# Altium schematic symbol library Regulators.SchLib: 376 symbols (part 2 of 4)
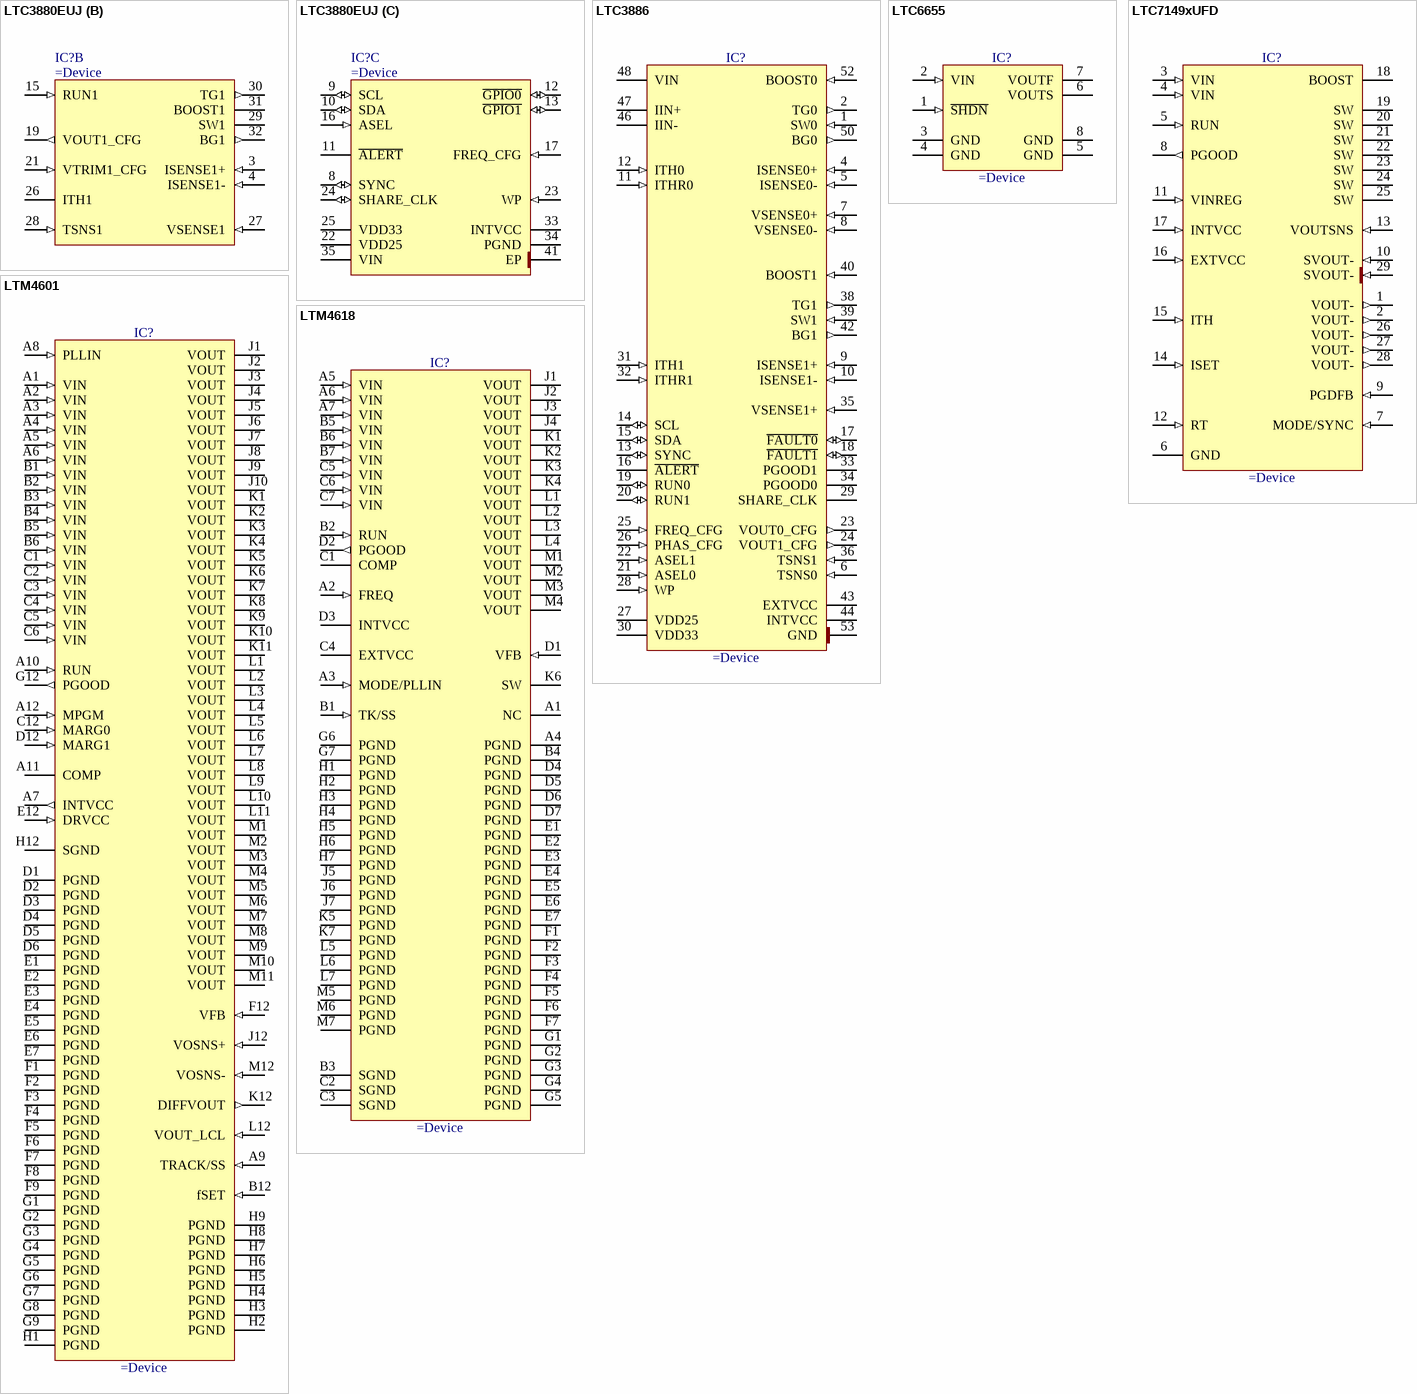
[diagram p13: symbols LTC3880EUJ to LTM4618]

## LTC3880EUJ
designator IC?
Dual Output PolyPhase Step-Down DC/DC Controller with Digital Power System Management, 40-pin QFN (UJ-40), -40 to 105 degC, Pb-Free
part A pins: 1 VSENSE0+ (in) "Channel 0 Positive Voltage Sense Input.", 2 VSENSE0- (in) "Channel 0 Negative Voltage Sense Input.", 5 ITH0 "Current Control Threshold and Error Amplifier Compensation Nodes. Each associated channel¡¯s current comparator tripping threshold increases with its ITH voltage.", 6 ISENSE0+ (in) "Current Sense Comparator Inputs. The (+) inputs to the current comparators are normally connected to DCR sensing networks or current sensing resistors.", 7 ISENSE0- (in) "Current Sense Comparator Inputs. The (-) inputs are connected to the low side of the current sense element.", 14 RUN0 (in) "Enable Run Input. Logic high on these pins enables the controller. Open-drain output holds the pin low until the LTC3880 is out of reset. A pullup resistor to 3.3V is required in the application.", 18 VOUT0_CFG (out) "Output Voltage Select Pin. Connect a +/-1% resistor divider between the chip VDD25 VOUTn_CFG and SGND in order to select output voltage. This voltage can be adjusted with the VTRIMn_CFG pins. If the pin is left open, the IC (See Datasheet)", 20 VTRIM0_CFG (in) "Voltage Trim Select Pin. Connect a +/-1% resistor divider between the chip VDD25 VTRIMn_CFG and SGND in order to adjust the output voltage set point. The VTRIMn_CFG settings in conjunction with the VOUTn_CFG setting adjusts (See Datasheet)", 36 BG0 (out) "Bottom Gate Driver Outputs. These pins drive the gates of the bottom N-Channel MOSFETs between PGND and INTVCC.", 37 BOOST0 "Boosted Floating Driver Supplies. The (+) terminal of the booststrap capacitors connect to these pins. These pins swing from a diode voltage drop below INTVCC up to VIN + INTVCC.", 38 TG0 (out) "Top Gate Driver Outputs. These are the outputs of floating drivers with a voltage swing equal to INTVCC superimposed on the switch node voltages.", 39 SW0 "Switch Node Connections to Inductors. Voltage swings at the pins are from a Schottky diode (external) voltage drop below ground to VIN.", 40 TSNS0 (in) "Channel 0,1 External Diode Temperature Sense. Connect to the anode of a diode connected PNP transistor and star connect the cathode to SGND in order to sense remote temperature. If external temperature sense elements are not (See Datasheet)"
part B pins: 3 ISENSE1+ (in) "Current Sense Comparator Inputs. The (+) inputs to the current comparators are normally connected to DCR sensing networks or current sensing resistors.", 4 ISENSE1- (in) "Current Sense Comparator Inputs. The (-) inputs are connected to the low side of the current sense element.", 15 RUN1 (in) "Enable Run Input. Logic high on these pins enables the controller. Open-drain output holds the pin low until the LTC3880 is out of reset. A pullup resistor to 3.3V is required in the application.", 19 VOUT1_CFG (out) "Output Voltage Select Pin. Connect a +/-1% resistor divider between the chip VDD25 VOUTn_CFG and SGND in order to select output voltage. This voltage can be adjusted with the VTRIMn_CFG pins. If the pin is left open, the IC (See Datasheet)", 21 VTRIM1_CFG (in) "Voltage Trim Select Pin. Connect a +/-1% resistor divider between the chip VDD25 VTRIMn_CFG and SGND in order to adjust the output voltage set point. The VTRIMn_CFG settings in conjunction with the VOUTn_CFG setting adjusts (See Datasheet)", 26 ITH1 "Current Control Threshold and Error Amplifier Compensation Nodes. Each associated channel¡¯s current comparator tripping threshold increases with its ITH voltage.", 27 VSENSE1 (in) "Channel 1 Voltage Sense Input. This input voltage is referenced to the SGND pin.", 28 TSNS1 (in) "Channel 0,1 External Diode Temperature Sense. Connect to the anode of a diode connected PNP transistor and star connect the cathode to SGND in order to sense remote temperature. If external temperature sense elements are not (See Datasheet)", 29 SW1 "Switch Node Connections to Inductors. Voltage swings at the pins are from a Schottky diode (external) voltage drop below ground to VIN.", 30 TG1 (out) "Top Gate Driver Outputs. These are the outputs of floating drivers with a voltage swing equal to INTVCC superimposed on the switch node voltages.", 31 BOOST1 "Boosted Floating Driver Supplies. The (+) terminal of the booststrap capacitors connect to these pins. These pins swing from a diode voltage drop below INTVCC up to VIN + INTVCC.", 32 BG1 (out) "Bottom Gate Driver Outputs. These pins drive the gates of the bottom N-Channel MOSFETs between PGND and INTVCC."
part C pins: 8 SYNC (io) "External Clock Synchronization Input and Open-Drain Output Pin. If an external clock is present at this pin, the switching frequency will be synchronized to the external clock. If clock master mode is enabled, this pin will (See Datasheet)", 9 SCL (io) "Serial Bus Clock Input. Open-drain output, can hold the output low if clock stretching is enabled. A pull-up resistor to 3.3V is required in the application.", 10 SDA (io) "Serial Bus Data Input and Output. A pull-up resistor to 3.3V is required in the application.", 11 ~{ALERT} (oc) "Open-Drain Digital Output. Connect the S\M\B\A\L\E\R\T\ signal to this pin. A pull-up resistor to 3.3V is required in the application", 12 ~{GPIO0} (io) "Digital Programmable General Purpose Inputs and Outputs. Open-drain output. A pull-up resistor to 3.3V is required in the application.", 13 ~{GPIO1} (io) "Digital Programmable General Purpose Inputs and Outputs. Open-drain output. A pull-up resistor to 3.3V is required in the application.", 16 ASEL (in) "Serial Bus Address Configuration Input. Connect a +/-1% resistor divider between the chip VDD25 ASEL and SGND in order to select the 4LSBs of the serial bus interface address. A resistor divider on ASEL is recommended if (See Datasheet)", 17 FREQ_CFG (in) "Frequency or Phase Set/Select Pin. Connect a +/-1% resistor divider between the chip VDD25 FREQ_CFG and SGND in order to select switching frequency or phase. If the pin is left open, the IC will use the value programmed in (See Datasheet)", 22 VDD25 (power) "Internally Generated 2.5V power Supply Output Pin. Bypass this pin to SGND with a low ESR 1uF capacitor. Do not load this pin with external current except for the +/-1% resistor dividers required for the configuration pins.", 23 WP (in) "Write Protect Pin Active High. An internal 10uA current source pulls the pin to VDD33. If WP is high, the PMBus writes are restricted.", 24 SHARE_CLK (io) "Share Clock, Bidirectional Open- Drain Clock Sharing Pin. Nominally 100kHz. Used to synchronize the timing between multiple LTC3880s. Tie all SHARE_CLK pins together. All LTC3880s will synchronize to the fastest clock. A (See Datasheet)", 25 VDD33 (power) "Internally Generated 3.3V Power Supply Output Pin. Bypass this pin to SGND with a low ESR 1uF capacitor. Do not load this pin with external current except for the pull-up resistors required for G\P\I\O\n, SCLK, SYNC and (See Datasheet)", 33 INTVCC (power) "Internal Regulator 5V Output. The control circuits are powered from this voltage. Decouple this pin to PGND with a minimum of 4.7uF low ESR tantalum or ceramic capacitor.", 34 PGND (power) "Power Ground Pin. Connect this pin closely to the sources of the bottom N-channel MOSFETs, the (-) terminal of CVCC and the (-) terminal of CIN.", 35 VIN (power) "Main Input Supply. Decouple this pin to PGND with a capacitor (0.1uF to 1uF). For applications where the main input power is 5V, tie the VIN and INTVCC pins together.", 41 EP (power) "Signal Ground. All smallsignal and compensation components should connect to this ground, which in turn connects to PGND at one point."

## LTC3886
designator IC?
Current Mode Synchronous Switching Regulator Controller
pins: 1 SW0 (in), 2 TG0 (out), 4 ISENSE0+ (in), 5 ISENSE0- (in), 6 TSNS0 (in), 7 VSENSE0+ (in), 8 VSENSE0- (in), 9 ISENSE1+ (in), 10 ISENSE1- (in), 11 ITHR0 (in), 12 ITH0 (in), 13 SYNC (io), 14 SCL (io), 15 SDA (io), 16 ~{ALERT} (oc), 17 ~{FAULT0} (io), 18 ~{FAULT1} (io), 19 RUN0 (io), 20 RUN1 (io), 21 ASEL0 (in), 22 ASEL1 (in), 23 VOUT0_CFG (out), 24 VOUT1_CFG (out), 25 FREQ_CFG (in), 26 PHAS_CFG (in), 27 VDD25 (power), 28 WP (in), 29 SHARE_CLK (oc), 30 VDD33 (power), 31 ITH1 (in), 32 ITHR1 (in), 33 PGOOD1 (oc), 34 PGOOD0 (oc), 35 VSENSE1+ (in), 36 TSNS1 (in), 38 TG1 (out), 39 SW1 (in), 40 BOOST1 (in), 42 BG1 (out), 43 EXTVCC (power), 44 INTVCC (power), 46 IIN- (power), 47 IIN+ (power), 48 VIN (power), 50 BG0 (out), 52 BOOST0 (in), 53 GND (power)

## LTC6655
designator IC?
0.25ppm Noise, Low Drift Precision Buffered Voltage Reference
pins: 1 ~{SHDN} (in), 2 VIN (in), 3 GND (power), 4 GND (power), 5 GND (power), 6 VOUTS (power), 7 VOUTF (power), 8 GND (power)

## LTC7149xUFD
designator IC?
60V, 4A Synchronous  Step-Down Regulator for Inverting Outputs
pins: 1 VOUT- (out), 2 VOUT- (out), 3 VIN (in), 4 VIN (in), 5 RUN (in), 6 GND (power), 7 MODE/SYNC (in), 8 PGOOD (out), 9 PGDFB (in), 10 SVOUT- (in), 11 VINREG (in), 12 RT (in), 13 VOUTSNS (in), 14 ISET (in), 15 ITH (in), 16 EXTVCC (in), 17 INTVCC (in), 18 BOOST, 19 SW (power), 20 SW (power), 21 SW (power), 22 SW (power), 23 SW (power), 24 SW (power), 25 SW (power), 26 VOUT- (out), 27 VOUT- (out), 28 VOUT- (out), 29 SVOUT- (in)

## LTM4601
designator IC?
4.5V-20V To 0.6V-5V, Iout 12A DC/DC uModule With PLL, Output Tracking And Margining
pins: A1 VIN (in), A2 VIN (in), A3 VIN (in), A4 VIN (in), A5 VIN (in), A6 VIN (in), A7 INTVCC (out), A8 PLLIN (in), A9 TRACK/SS (in), A10 RUN (in), A11 COMP, A12 MPGM (in), B1 VIN (in), B2 VIN (in), B3 VIN (in), B4 VIN (in), B5 VIN (in), B6 VIN (in), B12 fSET (in), C1 VIN (in), C2 VIN (in), C3 VIN (in), C4 VIN (in), C5 VIN (in), C6 VIN (in), C12 MARG0 (in), D1 PGND (power), D2 PGND (power), D3 PGND (power), D4 PGND (power), D5 PGND (power), D6 PGND (power), D12 MARG1 (in), E1 PGND (power), E2 PGND (power), E3 PGND (power), E4 PGND (power), E5 PGND (power), E6 PGND (power), E7 PGND (power), E12 DRVCC (in), F1 PGND (power), F2 PGND (power), F3 PGND (power), F4 PGND (power), F5 PGND (power), F6 PGND (power), F7 PGND (power), F8 PGND (power), F9 PGND (power), F12 VFB (in), G1 PGND (power), G2 PGND (power), G3 PGND (power), G4 PGND (power), G5 PGND (power), G6 PGND (power), G7 PGND (power), G8 PGND (power), G9 PGND (power), G12 PGOOD (out), H1 PGND (power), H2 PGND (power), H3 PGND (power), H4 PGND (power), H5 PGND (power), H6 PGND (power), H7 PGND (power), H8 PGND (power), H9 PGND (power), H12 SGND (power), J1 VOUT (power), J2 VOUT (power), J3 VOUT (power), J4 VOUT (power), J5 VOUT (power), J6 VOUT (power), J7 VOUT (power), J8 VOUT (power), J9 VOUT (power), J10 VOUT (power), J12 VOSNS+ (in), K1 VOUT (power), K2 VOUT (power), K3 VOUT (power), K4 VOUT (power), K5 VOUT (power), K6 VOUT (power), K7 VOUT (power), K8 VOUT (power), K9 VOUT (power), K10 VOUT (power), K11 VOUT (power), K12 DIFFVOUT (out), L1 VOUT (power), L2 VOUT (power), L3 VOUT (power), L4 VOUT (power), L5 VOUT (power), L6 VOUT (power), L7 VOUT (power), L8 VOUT (power), L9 VOUT (power), L10 VOUT (power), L11 VOUT (power), L12 VOUT_LCL (in), M1 VOUT (power), M2 VOUT (power), M3 VOUT (power), M4 VOUT (power), M5 VOUT (power), M6 VOUT (power), M7 VOUT (power), M8 VOUT (power), M9 VOUT (power), M10 VOUT (power), M11 VOUT (power), M12 VOSNS- (in)

## LTM4618
designator IC?
4.5V-26.5V to 0.8V-5V, 6A DC/DC μModule Regulator with Tracking and Frequency Synchronization
pins: A1 NC "No Connect. Leave floating.", A2 FREQ (in) "Frequency Selection Pin. An internal low pass filter is tied to this pin. The frequency can be selected with a voltage from this pin to SGND. A programming resistor divider can be used to set the operating frequency. The (See Datasheet)", A3 MODE/PLLIN (in) "Mode Selection or External Synchronization Pin. Tying this pin to INTVCC enables pulse-skipping operation. Tying this pin low enables forced continuous mode operation. Burst Mode operation is enabled by floating the pin. A (See Datasheet)", A4 PGND (power) "Power ground pins for both input and output returns.", A5 VIN (in) "Power Input Pins. Apply input voltage between these pins and PGND pins. Recommend placing input decoupling capacitance directly between VIN pins and PGND pins.", A6 VIN (in) "Power Input Pins. Apply input voltage between these pins and PGND pins. Recommend placing input decoupling capacitance directly between VIN pins and PGND pins.", A7 VIN (in) "Power Input Pins. Apply input voltage between these pins and PGND pins. Recommend placing input decoupling capacitance directly between VIN pins and PGND pins.", B1 TK/SS (in) "Output Voltage Tracking and Soft-Start Pin. An internal soft-start current of 1.3uA charges the soft-start capacitor. See the Applications Information section.", B2 RUN (in) "Run Control Pin. A voltage above 1.35V on this pin turns on the module. Forcing this pin below 1.1V will shut down the output. The RUN pin has a 1uA pullup current source that increases to 10uA as the RUN pin voltage reaches (See Datasheet)", B3 SGND (power) "Signal Ground Pin. Return ground path for all analog and low power circuitry. Tie a single connection to PGND. See applications for details.", B4 PGND (power) "Power ground pins for both input and output returns.", B5 VIN (in) "Power Input Pins. Apply input voltage between these pins and PGND pins. Recommend placing input decoupling capacitance directly between VIN pins and PGND pins.", B6 VIN (in) "Power Input Pins. Apply input voltage between these pins and PGND pins. Recommend placing input decoupling capacitance directly between VIN pins and PGND pins.", B7 VIN (in) "Power Input Pins. Apply input voltage between these pins and PGND pins. Recommend placing input decoupling capacitance directly between VIN pins and PGND pins.", C1 COMP "Current control threshold and error amplifier compensation point. The module has been internally compensated for most I/O ranges.", C2 SGND (power) "Signal Ground Pin. Return ground path for all analog and low power circuitry. Tie a single connection to PGND. See applications for details.", C3 SGND (power) "Signal Ground Pin. Return ground path for all analog and low power circuitry. Tie a single connection to PGND. See applications for details.", C4 EXTVCC (power) "External Voltage Input. Bypasses the internal INTVCC LDO and powers the internal circuitry and MOSFET drivers. If a 5V source is available, the internal LDO is disabled, and the power dissipation is lower, especially at (See Datasheet)", C5 VIN (in) "Power Input Pins. Apply input voltage between these pins and PGND pins. Recommend placing input decoupling capacitance directly between VIN pins and PGND pins.", C6 VIN (in) "Power Input Pins. Apply input voltage between these pins and PGND pins. Recommend placing input decoupling capacitance directly between VIN pins and PGND pins.", C7 VIN (in) "Power Input Pins. Apply input voltage between these pins and PGND pins. Recommend placing input decoupling capacitance directly between VIN pins and PGND pins.", D1 VFB (in) "The negative input of the error amplifier. Internally, this pin is connected to VOUT with a 60.4kohm precision resistor. Different output voltages can be programmed with an additional resistor between VFB and SGND pins. See (See Datasheet)", D2 PGOOD (out) "Output Voltage Power Good Indicator. Open-drain logic output that is pulled to ground when the output voltage is not within +/-7.5% of the regulation point.", D3 INTVCC (power) "Internal 5V Regulator Output. This pin is for additional decoupling of the 5V internal regulator.", D4 PGND (power) "Power ground pins for both input and output returns.", D5 PGND (power) "Power ground pins for both input and output returns.", D6 PGND (power) "Power ground pins for both input and output returns.", D7 PGND (power) "Power ground pins for both input and output returns.", E1 PGND (power) "Power ground pins for both input and output returns.", E2 PGND (power) "Power ground pins for both input and output returns.", E3 PGND (power) "Power ground pins for both input and output returns.", E4 PGND (power) "Power ground pins for both input and output returns.", E5 PGND (power) "Power ground pins for both input and output returns.", E6 PGND (power) "Power ground pins for both input and output returns.", E7 PGND (power) "Power ground pins for both input and output returns.", F1 PGND (power) "Power ground pins for both input and output returns.", F2 PGND (power) "Power ground pins for both input and output returns.", F3 PGND (power) "Power ground pins for both input and output returns.", F4 PGND (power) "Power ground pins for both input and output returns.", F5 PGND (power) "Power ground pins for both input and output returns.", F6 PGND (power) "Power ground pins for both input and output returns.", F7 PGND (power) "Power ground pins for both input and output returns.", G1 PGND (power) "Power ground pins for both input and output returns.", G2 PGND (power) "Power ground pins for both input and output returns.", G3 PGND (power) "Power ground pins for both input and output returns.", G4 PGND (power) "Power ground pins for both input and output returns.", G5 PGND (power) "Power ground pins for both input and output returns.", G6 PGND (power) "Power ground pins for both input and output returns.", G7 PGND (power) "Power ground pins for both input and output returns.", H1 PGND (power) "Power ground pins for both input and output returns.", H2 PGND (power) "Power ground pins for both input and output returns.", H3 PGND (power) "Power ground pins for both input and output returns.", H4 PGND (power) "Power ground pins for both input and output returns.", H5 PGND (power) "Power ground pins for both input and output returns.", H6 PGND (power) "Power ground pins for both input and output returns.", H7 PGND (power) "Power ground pins for both input and output returns.", J1 VOUT (power) "Power Output Pins. Apply output load between these pins and PGND pins. Recommend placing output decoupling capacitance directly between these pins and PGND pins.", J2 VOUT (power) "Power Output Pins. Apply output load between these pins and PGND pins. Recommend placing output decoupling capacitance directly between these pins and PGND pins.", J3 VOUT (power) "Power Output Pins. Apply output load between these pins and PGND pins. Recommend placing output decoupling capacitance directly between these pins and PGND pins.", J4 VOUT (power) "Power Output Pins. Apply output load between these pins and PGND pins. Recommend placing output decoupling capacitance directly between these pins and PGND pins.", J5 PGND (power) "Power ground pins for both input and output returns.", J6 PGND (power) "Power ground pins for both input and output returns.", J7 PGND (power) "Power ground pins for both input and output returns.", K1 VOUT (power) "Power Output Pins. Apply output load between these pins and PGND pins. Recommend placing output decoupling capacitance directly between these pins and PGND pins.", K2 VOUT (power) "Power Output Pins. Apply output load between these pins and PGND pins. Recommend placing output decoupling capacitance directly between these pins and PGND pins.", K3 VOUT (power) "Power Output Pins. Apply output load between these pins and PGND pins. Recommend placing output decoupling capacitance directly between these pins and PGND pins.", K4 VOUT (power) "Power Output Pins. Apply output load between these pins and PGND pins. Recommend placing output decoupling capacitance directly between these pins and PGND pins.", K5 PGND (power) "Power ground pins for both input and output returns.", K6 SW "Switching Node of the Circuit. This pin is used to check the switching frequency. Leave pin floating. A resistor-capacitor snubber can be placed from SW to PGND to eliminate high frequency switch node ringing. See the (See Datasheet)", K7 PGND (power) "Power ground pins for both input and output returns.", L1 VOUT (power) "Power Output Pins. Apply output load between these pins and PGND pins. Recommend placing output decoupling capacitance directly between these pins and PGND pins.", L2 VOUT (power) "Power Output Pins. Apply output load between these pins and PGND pins. Recommend placing output decoupling capacitance directly between these pins and PGND pins.", L3 VOUT (power) "Power Output Pins. Apply output load between these pins and PGND pins. Recommend placing output decoupling capacitance directly between these pins and PGND pins.", L4 VOUT (power) "Power Output Pins. Apply output load between these pins and PGND pins. Recommend placing output decoupling capacitance directly between these pins and PGND pins.", L5 PGND (power) "Power ground pins for both input and output returns.", L6 PGND (power) "Power ground pins for both input and output returns.", L7 PGND (power) "Power ground pins for both input and output returns.", M1 VOUT (power) "Power Output Pins. Apply output load between these pins and PGND pins. Recommend placing output decoupling capacitance directly between these pins and PGND pins.", M2 VOUT (power) "Power Output Pins. Apply output load between these pins and PGND pins. Recommend placing output decoupling capacitance directly between these pins and PGND pins.", M3 VOUT (power) "Power Output Pins. Apply output load between these pins and PGND pins. Recommend placing output decoupling capacitance directly between these pins and PGND pins.", M4 VOUT (power) "Power Output Pins. Apply output load between these pins and PGND pins. Recommend placing output decoupling capacitance directly between these pins and PGND pins.", M5 PGND (power) "Power ground pins for both input and output returns.", M6 PGND (power) "Power ground pins for both input and output returns.", M7 PGND (power) "Power ground pins for both input and output returns."

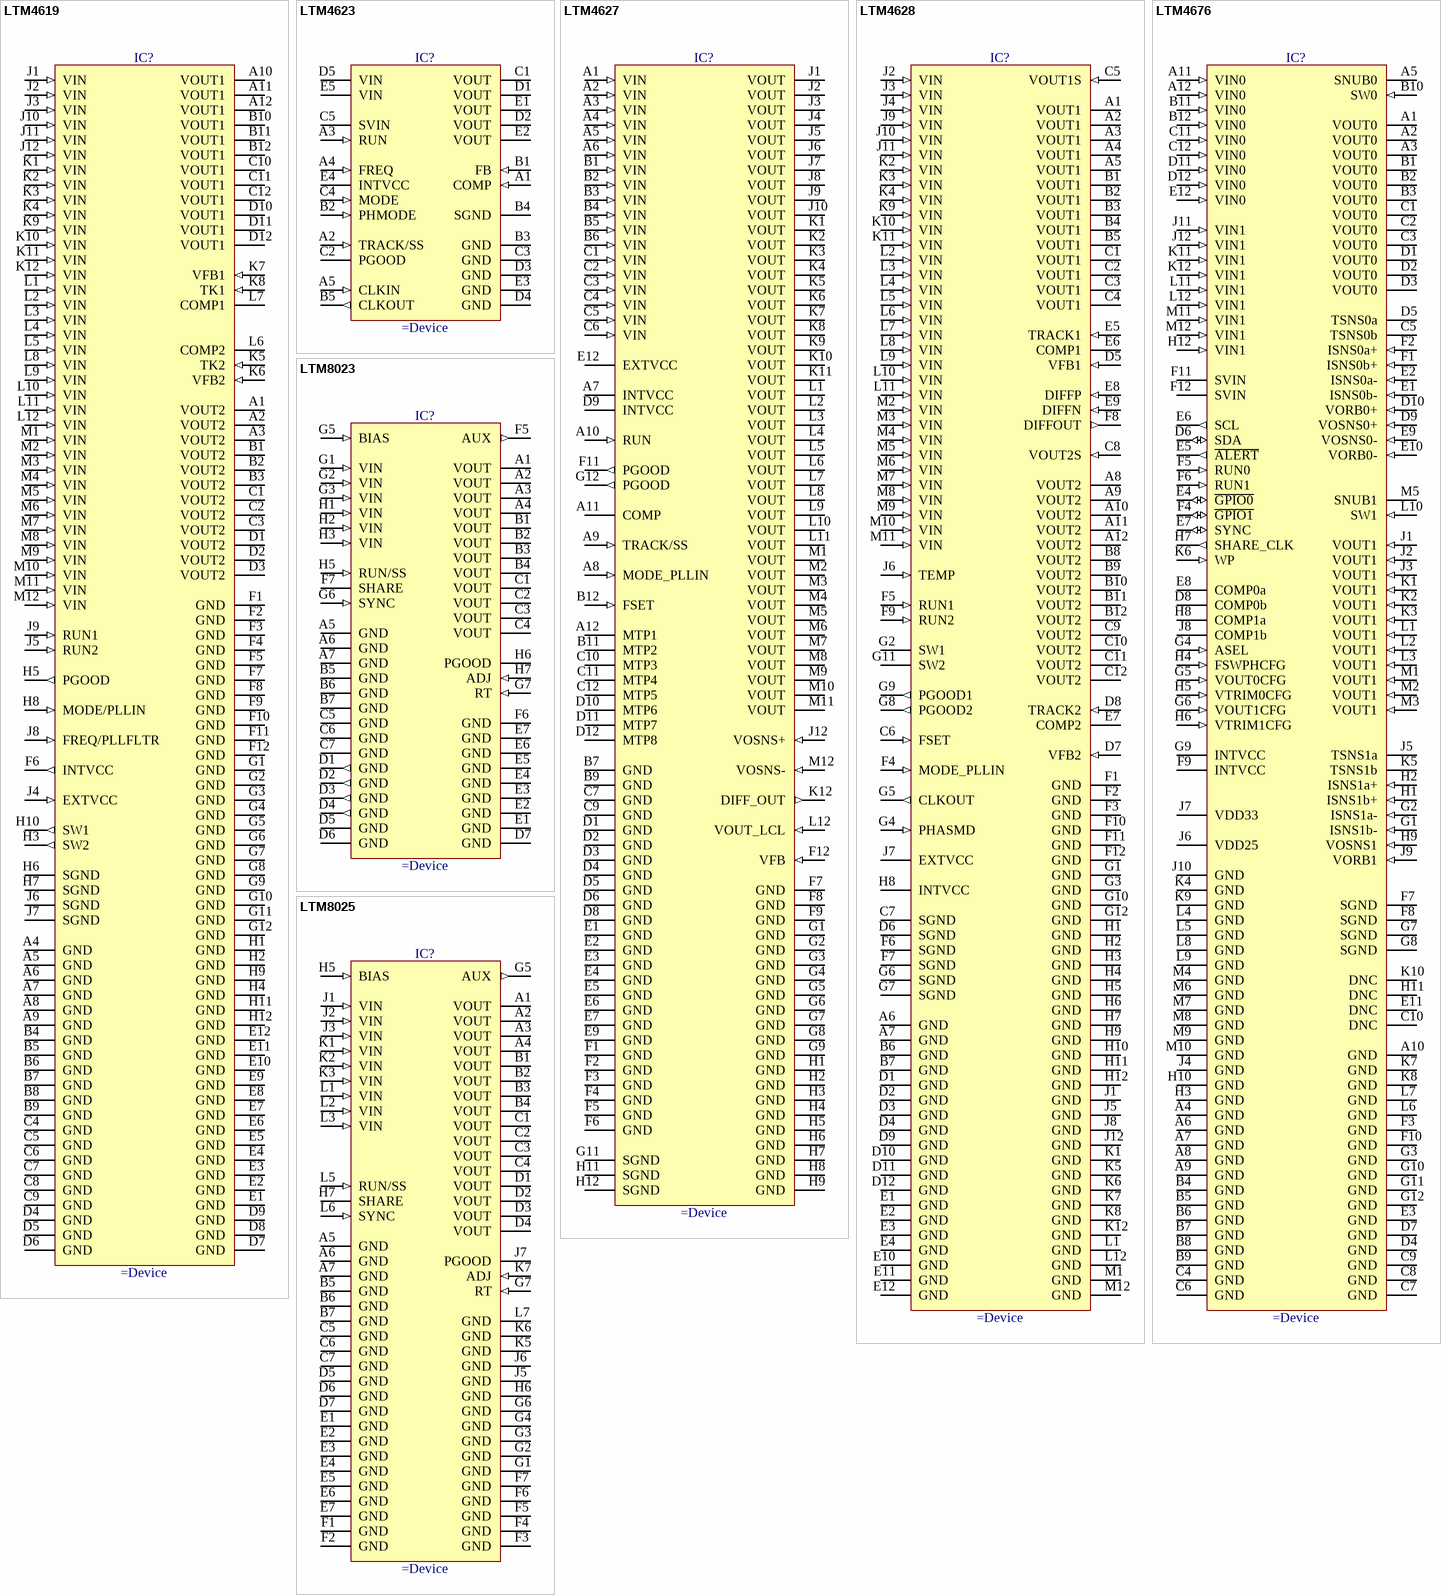
[diagram p6: symbols LTM4619 to LTM8025]

## LTM4619
designator IC?
4.5V-26.5V To 0.8V-5V, Iout 4A Dual DC/DC uModule Regulator
pins: A1 VOUT2 (power), A2 VOUT2 (power), A3 VOUT2 (power), A4 GND (power), A5 GND (power), A6 GND (power), A7 GND (power), A8 GND (power), A9 GND (power), A10 VOUT1 (power), A11 VOUT1 (power), A12 VOUT1 (power), B1 VOUT2 (power), B2 VOUT2 (power), B3 VOUT2 (power), B4 GND (power), B5 GND (power), B6 GND (power), B7 GND (power), B8 GND (power), B9 GND (power), B10 VOUT1 (power), B11 VOUT1 (power), B12 VOUT1 (power), C1 VOUT2 (power), C2 VOUT2 (power), C3 VOUT2 (power), C4 GND (power), C5 GND (power), C6 GND (power), C7 GND (power), C8 GND (power), C9 GND (power), C10 VOUT1 (power), C11 VOUT1 (power), C12 VOUT1 (power), D1 VOUT2 (power), D2 VOUT2 (power), D3 VOUT2 (power), D4 GND (power), D5 GND (power), D6 GND (power), D7 GND (power), D8 GND (power), D9 GND (power), D10 VOUT1 (power), D11 VOUT1 (power), D12 VOUT1 (power), E1 GND (power), E2 GND (power), E3 GND (power), E4 GND (power), E5 GND (power), E6 GND (power), E7 GND (power), E8 GND (power), E9 GND (power), E10 GND (power), E11 GND (power), E12 GND (power), F1 GND (power), F2 GND (power), F3 GND (power), F4 GND (power), F5 GND (power), F6 INTVCC (out), F7 GND (power), F8 GND (power), F9 GND (power), F10 GND (power), F11 GND (power), F12 GND (power), G1 GND (power), G2 GND (power), G3 GND (power), G4 GND (power), G5 GND (power), G6 GND (power), G7 GND (power), G8 GND (power), G9 GND (power), G10 GND (power), G11 GND (power), G12 GND (power), H1 GND (power), H2 GND (power), H3 SW2 (out), H4 GND (power), H5 PGOOD (out), H6 SGND (power), H7 SGND (power), H8 MODE/PLLIN (in), H9 GND (power), H10 SW1 (out), H11 GND (power), H12 GND (power), J1 VIN (in), J2 VIN (in), J3 VIN (in), J4 EXTVCC (in), J5 RUN2 (in), J6 SGND (power), J7 SGND (power), J8 FREQ/PLLFLTR (in), J9 RUN1 (in), J10 VIN (in), J11 VIN (in), J12 VIN (in), K1 VIN (in), K2 VIN (in), K3 VIN (in), K4 VIN (in), K5 TK2 (in), K6 VFB2 (in), K7 VFB1 (in), K8 TK1 (in), K9 VIN (in), K10 VIN (in), K11 VIN (in), K12 VIN (in), L1 VIN (in), L2 VIN (in), L3 VIN (in), L4 VIN (in), L5 VIN (in), L6 COMP2, L7 COMP1, L8 VIN (in), L9 VIN (in), L10 VIN (in), L11 VIN (in), L12 VIN (in), M1 VIN (in), M2 VIN (in), M3 VIN (in), M4 VIN (in), M5 VIN (in), M6 VIN (in), M7 VIN (in), M8 VIN (in), M9 VIN (in), M10 VIN (in), M11 VIN (in), M12 VIN (in)

## LTM4623
designator IC?
4V-20V to 0.6V-5.5V, Iout 3A Step-Down DC/DC uModule Regulator
pins: A1 COMP (in), A2 TRACK/SS (in), A3 RUN (in), A4 FREQ (in), A5 CLKIN (in), B1 FB (in), B2 PHMODE (in), B3 GND (power), B4 SGND (power), B5 CLKOUT (out), C1 VOUT (power), C2 PGOOD (oc), C3 GND (power), C4 MODE (in), C5 SVIN (power), D1 VOUT (power), D2 VOUT (power), D3 GND (power), D4 GND (power), D5 VIN (power), E1 VOUT (power), E2 VOUT (power), E3 GND (power), E4 INTVCC (power), E5 VIN (power)

## LTM4627
designator IC?
4.5V-20V To 0.6V-5V, 15A DC/DC μModule Regulator
pins: A1 VIN (in) "Power Input Pins.", A2 VIN (in) "Power Input Pins.", A3 VIN (in) "Power Input Pins.", A4 VIN (in) "Power Input Pins.", A5 VIN (in) "Power Input Pins.", A6 VIN (in) "Power Input Pins.", A7 INTVCC (power) "Internal 5V LDO for Driving the Control Circuitry and the Power MOSFET Drivers. Both pins are internally connected.", A8 MODE_PLLIN (in) "Forced Continuous Mode, Burst Mode Operation, or Pulse-Skipping Mode Selection Pin and External Synchronization Input to Phase Detector Pin.", A9 TRACK/SS (in), A10 RUN (in) "Run Control Pin. A voltage above 1.4V will turn on the module. A 5.1V Zener diode to ground is internal to the module for limiting the voltage on the RUN pin to 5V, and allowing a pull up resistor to VIN for enabling the (See Datasheet)", A11 COMP "Current Control Threshold and Error Amplifier Compensation Point. The current comparator threshold increases with this control voltage. Tie all COMP pins together for parallel operation. The device is internally compensated.", A12 MTP1 "Extra mounting pads used for increased solder integrity strength.", B1 VIN (in) "Power Input Pins. Apply input voltage between these pins and GND pins.", B2 VIN (in) "Power Input Pins. Apply input voltage between these pins and GND pins.", B3 VIN (in) "Power Input Pins. Apply input voltage between these pins and GND pins.", B4 VIN (in) "Power Input Pins. Apply input voltage between these pins and GND pins.", B5 VIN (in) "Power Input Pins. Apply input voltage between these pins and GND pins.", B6 VIN (in) "Power Input Pins. Apply input voltage between these pins and GND pins.", B7 GND (power) "Power Ground Pins for Both Input and Output Returns.", B9 GND (power) "Power Ground Pins for Both Input and Output Returns.", B11 MTP2 "Extra mounting pads used for increased solder integrity strength.", B12 FSET (in) "A resistor can be applied from this pin to ground to set the operating frequency, or a DC voltage can be applied to set the frequency. See the Applications Information section.", C1 VIN (in) "Power Input Pins. Apply input voltage between these pins and GND pins.", C2 VIN (in) "Power Input Pins. Apply input voltage between these pins and GND pins.", C3 VIN (in) "Power Input Pins. Apply input voltage between these pins and GND pins.", C4 VIN (in) "Power Input Pins. Apply input voltage between these pins and GND pins.", C5 VIN (in) "Power Input Pins. Apply input voltage between these pins and GND pins.", C6 VIN (in) "Power Input Pins. Apply input voltage between these pins and GND pins.", C7 GND (power) "Power Ground Pins for Both Input and Output Returns.", C9 GND (power) "Power Ground Pins for Both Input and Output Returns.", C10 MTP3 "Extra mounting pads used for increased solder integrity strength.", C11 MTP4 "Extra mounting pads used for increased solder integrity strength.", C12 MTP5 "Extra mounting pads used for increased solder integrity strength.", D1 GND (power) "Power Ground Pins for Both Input and Output Returns.", D2 GND (power) "Power Ground Pins for Both Input and Output Returns.", D3 GND (power) "Power Ground Pins for Both Input and Output Returns.", D4 GND (power) "Power Ground Pins for Both Input and Output Returns.", D5 GND (power) "Power Ground Pins for Both Input and Output Returns.", D6 GND (power) "Power Ground Pins for Both Input and Output Returns.", D8 GND (power) "Power Ground Pins for Both Input and Output Returns.", D9 INTVCC (power) "Internal 5V LDO for Driving the Control Circuitry and the Power MOSFET Drivers. Both pins are internally connected.", D10 MTP6 "Extra mounting pads used for increased solder integrity strength.", D11 MTP7 "Extra mounting pads used for increased solder integrity strength.", D12 MTP8 "Extra mounting pads used for increased solder integrity strength.", E1 GND (power) "Power Ground Pins for Both Input and Output Returns.", E2 GND (power) "Power Ground Pins for Both Input and Output Returns.", E3 GND (power) "Power Ground Pins for Both Input and Output Returns.", E4 GND (power) "Power Ground Pins for Both Input and Output Returns.", E5 GND (power) "Power Ground Pins for Both Input and Output Returns.", E6 GND (power) "Power Ground Pins for Both Input and Output Returns.", E7 GND (power) "Power Ground Pins for Both Input and Output Returns.", E9 GND (power) "Power Ground Pins for Both Input and Output Returns.", E12 EXTVCC (power) "External power input to an internal control switch allows an external source greater than 4.7V, but less than 6V to supply IC power and bypass the internal INTVCC LDO. EXTVCC must be less than VIN at all times during (See Datasheet)", F1 GND (power) "Power Ground Pins for Both Input and Output Returns.", F2 GND (power) "Power Ground Pins for Both Input and Output Returns.", F3 GND (power) "Power Ground Pins for Both Input and Output Returns.", F4 GND (power) "Power Ground Pins for Both Input and Output Returns.", F5 GND (power) "Power Ground Pins for Both Input and Output Returns.", F6 GND (power) "Power Ground Pins for Both Input and Output Returns.", F7 GND (power) "Power Ground Pins for Both Input and Output Returns.", F8 GND (power) "Power Ground Pins for Both Input and Output Returns.", F9 GND (power) "Power Ground Pins for Both Input and Output Returns.", F11 PGOOD (out) "Output Voltage Power Good Indicator.", F12 VFB (in) "The Negative Input of the Error Amplifier. Internally, this pin is connected to VOUT_LCL with a 60.4k precision resistor. Different output voltages can be programmed with an additional resistor between the VFB and GND pins. (See Datasheet)", G1 GND (power) "Power Ground Pins for Both Input and Output Returns.", G2 GND (power) "Power Ground Pins for Both Input and Output Returns.", G3 GND (power) "Power Ground Pins for Both Input and Output Returns.", G4 GND (power) "Power Ground Pins for Both Input and Output Returns.", G5 GND (power) "Power Ground Pins for Both Input and Output Returns.", G6 GND (power) "Power Ground Pins for Both Input and Output Returns.", G7 GND (power) "Power Ground Pins for Both Input and Output Returns.", G8 GND (power) "Power Ground Pins for Both Input and Output Returns.", G9 GND (power) "Power Ground Pins for Both Input and Output Returns.", G11 SGND (power) "Signal Ground Pin. Return ground path for all analog and low power circuitry. Tie a single connection to the output capacitor GND in the application. See the layout guidelines in Figure 17.", G12 PGOOD (out) "Output Voltage Power Good Indicator.", H1 GND (power) "Power Ground Pins for Both Input and Output Returns.", H2 GND (power) "Power Ground Pins for Both Input and Output Returns.", H3 GND (power) "Power Ground Pins for Both Input and Output Returns.", H4 GND (power) "Power Ground Pins for Both Input and Output Returns.", H5 GND (power) "Power Ground Pins for Both Input and Output Returns.", H6 GND (power) "Power Ground Pins for Both Input and Output Returns.", H7 GND (power) "Power Ground Pins for Both Input and Output Returns.", H8 GND (power) "Power Ground Pins for Both Input and Output Returns.", H9 GND (power) "Power Ground Pins for Both Input and Output Returns.", H11 SGND (power) "Signal Ground Pin. Return ground path for all analog and low power circuitry. Tie a single connection to the output capacitor GND in the application. See the layout guidelines in Figure 17.", H12 SGND (power) "Signal Ground Pin. Return ground path for all analog and low power circuitry. Tie a single connection to the output capacitor GND in the application. See the layout guidelines in Figure 17.", J1 VOUT (power) "Power Output Pins. Apply output load between these pins and GND pins.", J2 VOUT (power) "Power Output Pins. Apply output load between these pins and GND pins.", J3 VOUT (power) "Power Output Pins. Apply output load between these pins and GND pins.", J4 VOUT (power) "Power Output Pins. Apply output load between these pins and GND pins.", J5 VOUT (power) "Power Output Pins. Apply output load between these pins and GND pins.", J6 VOUT (power) "Power Output Pins. Apply output load between these pins and GND pins.", J7 VOUT (power) "Power Output Pins. Apply output load between these pins and GND pins.", J8 VOUT (power) "Power Output Pins. Apply output load between these pins and GND pins.", J9 VOUT (power) "Power Output Pins. Apply output load between these pins and GND pins.", J10 VOUT (power) "Power Output Pins. Apply output load between these pins and GND pins.", J12 VOSNS+ (in) "(+) Input to the Remote Sense Amplifier. This pin connects to the output remote sense point. The remote sense amplifier is used for VOUT <= 3.3V. Connect to ground when not used.", K1 VOUT (power) "Power Output Pins. Apply output load between these pins and GND pins.", K2 VOUT (power) "Power Output Pins. Apply output load between these pins and GND pins.", K3 VOUT (power) "Power Output Pins. Apply output load between these pins and GND pins.", K4 VOUT (power) "Power Output Pins. Apply output load between these pins and GND pins.", K5 VOUT (power) "Power Output Pins. Apply output load between these pins and GND pins.", K6 VOUT (power) "Power Output Pins. Apply output load between these pins and GND pins.", K7 VOUT (power) "Power Output Pins. Apply output load between these pins and GND pins.", K8 VOUT (power) "Power Output Pins. Apply output load between these pins and GND pins.", K9 VOUT (power) "Power Output Pins. Apply output load between these pins and GND pins.", K10 VOUT (power) "Power Output Pins. Apply output load between these pins and GND pins.", K11 VOUT (power) "Power Output Pins. Apply output load between these pins and GND pins.", K12 DIFF_OUT (out) "Output of the Remote Sense Amplifier. This pin connects to the VOUT_LCL pin for remote sense applications. Otherwise float when not used.", L1 VOUT (power) "Power Output Pins. Apply output load between these pins and GND pins.", L2 VOUT (power) "Power Output Pins. Apply output load between these pins and GND pins.", L3 VOUT (power) "Power Output Pins. Apply output load between these pins and GND pins.", L4 VOUT (power) "Power Output Pins. Apply output load between these pins and GND pins.", L5 VOUT (power) "Power Output Pins. Apply output load between these pins and GND pins.", L6 VOUT (power) "Power Output Pins. Apply output load between these pins and GND pins.", L7 VOUT (power) "Power Output Pins. Apply output load between these pins and GND pins.", L8 VOUT (power) "Power Output Pins. Apply output load between these pins and GND pins.", L9 VOUT (power) "Power Output Pins. Apply output load between these pins and GND pins.", L10 VOUT (power) "Power Output Pins. Apply output load between these pins and GND pins.", L11 VOUT (power) "Power Output Pins. Apply output load between these pins and GND pins.", L12 VOUT_LCL (in) "This pin connects to VOUT through a 1M resistor and to VFB with a 60.4k resistor. The remote sense amplifier output DIFFVOUT is connected to VOUT_LCL, and drives the 60.4k top feedback resistor in remote sensing applications.(See Datasheet)", M1 VOUT (power) "Power Output Pins. Apply output load between these pins and GND pins.", M2 VOUT (power) "Power Output Pins. Apply output load between these pins and GND pins.", M3 VOUT (power) "Power Output Pins. Apply output load between these pins and GND pins.", M4 VOUT (power) "Power Output Pins. Apply output load between these pins and GND pins.", M5 VOUT (power) "Power Output Pins. Apply output load between these pins and GND pins.", M6 VOUT (power) "Power Output Pins. Apply output load between these pins and GND pins.", M7 VOUT (power) "Power Output Pins. Apply output load between these pins and GND pins.", M8 VOUT (power) "Power Output Pins. Apply output load between these pins and GND pins.", M9 VOUT (power) "Power Output Pins. Apply output load between these pins and GND pins.", M10 VOUT (power) "Power Output Pins. Apply output load between these pins and GND pins.", M11 VOUT (power) "Power Output Pins. Apply output load between these pins and GND pins.", M12 VOSNS- (in) "(-) Input to the Remote Sense Amplifier. This pin connects to the ground remote sense point. The remote sense amplifier is used for VOUT = 3.3V. Connect to ground when not used."